# Altium integrated library TL081CP.IntLib: 1 symbol
Pins are listed as number, name and electrical type; pins without a type are passive.

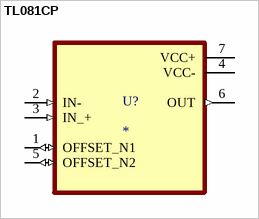
[diagram p0: symbol TL081CP]

## TL081CP
designator U?
Single, 30-V, 3-MHz, 13-V/Âµs slew rate, In to V+, JFET-input op amp; MF: Texas Instruments; MP: TL081CP; SnapEDA_Link: https://www.snapeda.com/parts/TL081CP/Texas+Instruments/view-part/?ref=snap; Package: PDIP-8 Texas; Value: *; Check_prices: https://www.snapeda.com/parts/TL081CP/Texas+Instruments/view-part/?ref=eda
footprint DIP794W45P254L959H508Q8
pins: 1 OFFSET_N1 (io), 2 IN- (in), 3 IN_+ (in), 4 VCC- (power), 5 OFFSET_N2 (io), 6 OUT (out), 7 VCC+ (power)